# Altium footprint library PCB_2020-12-27_16-28-50_2021-02-20_20-59-34.PcbLib: 20 footprints (part 2 of 2)
Each footprint in its own frame and in the unit in brackets; x right, y up, seen from the top. Pads: shape width x height; smd on the part's side, far side on the other; paste and mask are expansions set on the pad; w line width, h text height; cw(c..) or ccw(c..) is an arc to the next point about the centre after c.
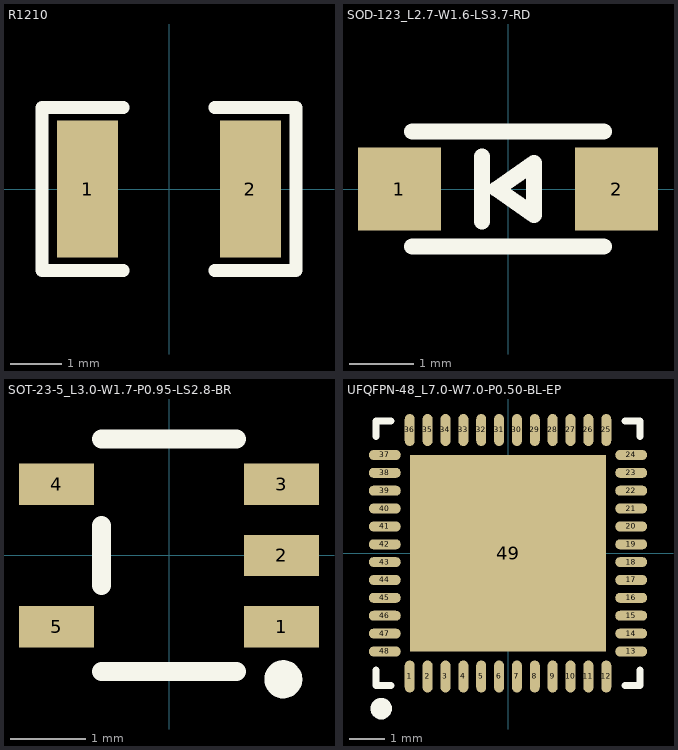
[diagram p1: the footprints below, top view; thin cyan lines are the x and y axes]

## R1210 [mm]
pads (2):
  rect 1.2x2.7 smd: 1(-1.6,0) 2(1.6,0)
Top Overlay:
  lines w0.254: -0.9,-1.6 -2.5,-1.6 -2.5,1.6 -0.9,1.6 ; 0.9,-1.6 2.5,-1.6 2.5,1.6 0.9,1.6
3D body "User Library-RESC3225X06N.step": height 0.55, standoff 0, extent -1.6,-1.25 1.6,1.25

## SOD-123_L2.7-W1.6-LS3.7-RD [mm]
pads (2):
  rect 1.3x1.3 smd: 1(-1.7,0) 2(1.7,0)
Top Overlay:
  lines w0.254: -1.5,-0.9 1.5,-0.9 ; -1.5,0.9 1.5,0.9 ; -0.406,-0.508 -0.406,0.508 ; -0.178,0 0.406,-0.406 0.406,0.406 -0.178,0
3D body "CircuitWorks-SOD123.STEP": height 1.32, standoff 0.05, extent -1.85,-0.8 1.85,0.8

## SOT-23-5_L3.0-W1.7-P0.95-LS2.8-BR [mm]
pads (5):
  rect 1x0.55 smd: 1(1.5,-0.95) 2(1.5,0) 3(1.5,0.95) 4(-1.5,0.95) 5(-1.5,-0.95)
Top Overlay:
  circle w0.254: c1.524,-1.651 r0.127
  lines w0.254: -0.9,-1.55 0.9,-1.55 ; -0.9,-0.4 -0.9,0.4 ; -0.9,1.55 0.9,1.55
3D body "CircuitWorks-SOT-23-5.STEP": height -0.06, standoff -1.16, extent -1.377,-1.5 1.123,1.5

## UFQFPN-48_L7.0-W7.0-P0.50-BL-EP [mm]
pads (49):
  oval 0.28x0.896 smd: 1(-2.751,-3.449) 2(-2.25,-3.449) 3(-1.75,-3.449) 4(-1.25,-3.449) 5(-0.749,-3.449) 6(-0.249,-3.449) 7(0.249,-3.449) 8(0.749,-3.449) 9(1.25,-3.449) 10(1.75,-3.449) 11(2.25,-3.449) 12(2.751,-3.449) 25(2.751,3.449) 26(2.25,3.449) 27(1.75,3.449) 28(1.25,3.449) 29(0.749,3.449) 30(0.249,3.449) 31(-0.249,3.449) 32(-0.749,3.449) 33(-1.25,3.449) 34(-1.75,3.449) 35(-2.25,3.449) 36(-2.751,3.449)
  oval 0.896x0.28 smd: 13(3.449,-2.751) 14(3.449,-2.25) 15(3.449,-1.75) 16(3.449,-1.25) 17(3.449,-0.749) 18(3.449,-0.249) 19(3.449,0.249) 20(3.449,0.749) 21(3.449,1.25) 22(3.449,1.75) 23(3.449,2.25) 24(3.449,2.751) 37(-3.449,2.751) 38(-3.449,2.25) 39(-3.449,1.75) 40(-3.449,1.25) 41(-3.449,0.749) 42(-3.449,0.249) 43(-3.449,-0.249) 44(-3.449,-0.749) 45(-3.449,-1.25) 46(-3.449,-1.75) 47(-3.449,-2.25) 48(-3.449,-2.751)
  rect 5.5x5.5 smd: 49(0,0)
Top Overlay:
  lines w0.2: -3.7,-3.275 -3.7,-3.7 -3.275,-3.7 ; -3.7,3.275 -3.7,3.7 -3.275,3.7 ; 3.275,-3.7 3.7,-3.7 3.7,-3.275 ; 3.275,3.7 3.7,3.7 3.7,3.275
  lines w0.3: -3.551,-4.201 ccw(c-3.55,-4.351) -3.548,-4.201
3D body "User Library-UFQFPN48.STEP": height 0.55, standoff 0, extent -3.5,-3.5 3.5,3.5